# EAGLE library part ML8 (library 0_HTL_uC-MEGACARD)
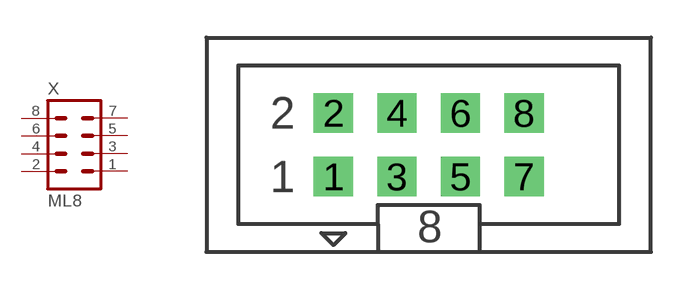
[diagram p4: symbol with the pads of ML8; footprint ML8]

Designator prefix X

## ML8  [ML8]
1  1  pas
2  2  pas
3  3  pas
4  4  pas
5  5  pas
6  6  pas
7  7  pas
8  8  pas

## Footprint ML8 (pad centres in mm)
drill 1 pad 1.575 square: 1 -3.81,-1.27; 2 -3.81,1.27; 3 -1.27,-1.27; 4 -1.27,1.27; 5 1.27,-1.27; 6 1.27,1.27; 7 3.81,-1.27; 8 3.81,1.27